# EAGLE library part MAX4447 (library LineDriver-Maxim)
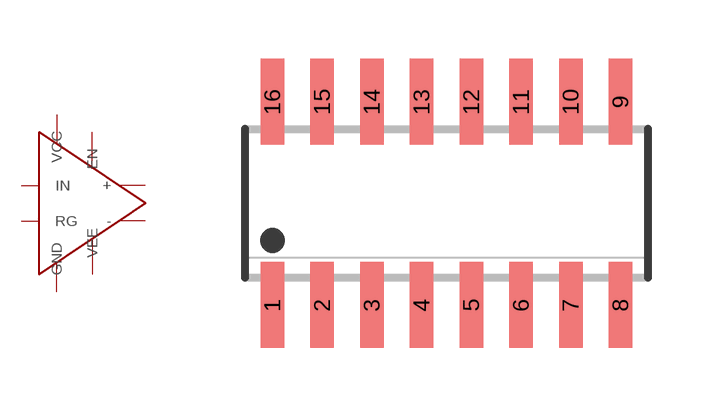
[diagram p0: symbol with the pads of SO16; footprint SO16]

Designator prefix -

## MAX4447  [SO16]
1  VCC
2  VCC1
4  RG
5  IN
7  VEE1
8  VEE2
9  EN
10  +
11  VEE3
12  VEE4
13  VEE
14  VEE5
15  -
16  GND

## Footprint SO16 (pad centres in mm)
smd 0.6 x 2.2: 1 -4.445,-2.6; 2 -3.175,-2.6; 3 -1.905,-2.6; 4 -0.635,-2.6; 5 0.635,-2.6; 6 1.905,-2.6; 7 3.175,-2.6; 8 4.445,-2.6; 9 4.445,2.6; 10 3.175,2.6; 11 1.905,2.6; 12 0.635,2.6; 13 -0.635,2.6; 14 -1.905,2.6; 15 -3.175,2.6; 16 -4.445,2.6